# EAGLE library part GRPB182VWQP (library con-sullins-grpb)
HEADER
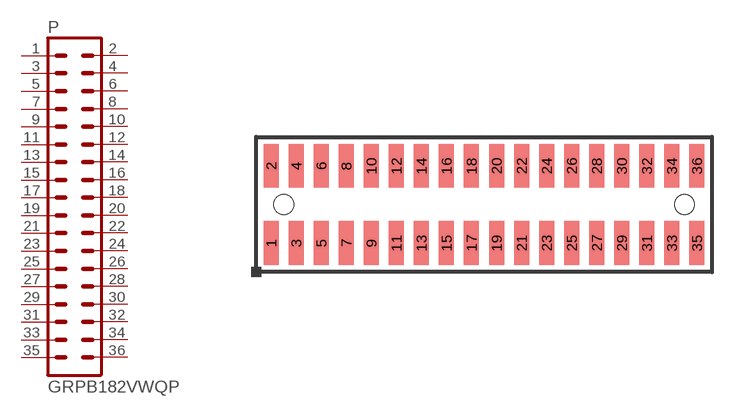
[diagram p15: symbol with the pads of GRPB182VWQP; footprint GRPB182VWQP]

Designator prefix P

## GRPB182VWQP  [GRPB182VWQP]
1  1  pas
2  2  pas
3  3  pas
4  4  pas
5  5  pas
6  6  pas
7  7  pas
8  8  pas
9  9  pas
10  10  pas
11  11  pas
12  12  pas
13  13  pas
14  14  pas
15  15  pas
16  16  pas
17  17  pas
18  18  pas
19  19  pas
20  20  pas
21  21  pas
22  22  pas
23  23  pas
24  24  pas
25  25  pas
26  26  pas
27  27  pas
28  28  pas
29  29  pas
30  30  pas
31  31  pas
32  32  pas
33  33  pas
34  34  pas
35  35  pas
36  36  pas

## Footprint GRPB182VWQP (pad centres in mm)
HEADER
smd 0.762 x 2.21: 1 -10.795,-1.956; 2 -10.795,1.956; 3 -9.525,-1.956; 4 -9.525,1.956; 5 -8.255,-1.956; 6 -8.255,1.956; 7 -6.985,-1.956; 8 -6.985,1.956; 9 -5.715,-1.956; 10 -5.715,1.956; 11 -4.445,-1.956; 12 -4.445,1.956; 13 -3.175,-1.956; 14 -3.175,1.956; 15 -1.905,-1.956; 16 -1.905,1.956; 17 -0.635,-1.956; 18 -0.635,1.956; 19 0.635,-1.956; 20 0.635,1.956; 21 1.905,-1.956; 22 1.905,1.956; 23 3.175,-1.956; 24 3.175,1.956; 25 4.445,-1.956; 26 4.445,1.956; 27 5.715,-1.956; 28 5.715,1.956; 29 6.985,-1.956; 30 6.985,1.956; 31 8.255,-1.956; 32 8.255,1.956; 33 9.525,-1.956; 34 9.525,1.956; 35 10.795,-1.956; 36 10.795,1.956
hole 1 at -10.16,0
hole 1 at 10.16,0